# Altium schematic symbol library SL_Capacitors_HV.SchLib: 1 symbol
Pins are listed as number, name and electrical type; pins without a type are passive.

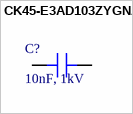
[diagram p0: symbol CK45-E3AD103ZYGNA]

## CK45-E3AD103ZYGNA
designator C?, comment 10nF, 1kV
10nF, 1kV, +80/-20%; Manufacturer_Name: TDK; Manufacturer_Part_Number: CK45-E3AD103ZYGNA; Datasheet Link: https://product.tdk.com/system/files/dam/doc/product/capacitor/ceramic/lead-disc/catalog/leaddisc_commercial_ck45_en.pdf; Height: 11.5mm; Mouser Part Number: 810-CK45-E3AD103ZYGN; Mouser Price/Stock: https://www.mouser.co.uk/ProductDetail/TDK/CK45-E3AD103ZYGNA?qs=eSfX1CQlHqowaJeRiYs%2FKQ%3D%3D; Arrow Part Number: CK45-E3AD103ZYGNA; Arrow Price/Stock: https://www.arrow.com/en/products/ck45-e3ad103zygna/tdk?utm_currency=USD&region=nac
footprint CK45E3AD103ZYGNA
pins: 1, 2